# Altium footprint library PcbLib1.PcbLib: 7 footprints
Each footprint in its own frame and in the unit in brackets; x right, y up, seen from the top. Pads: shape width x height; smd on the part's side, far side on the other; paste and mask are expansions set on the pad; w line width, h text height; cw(c..) or ccw(c..) is an arc to the next point about the centre after c.
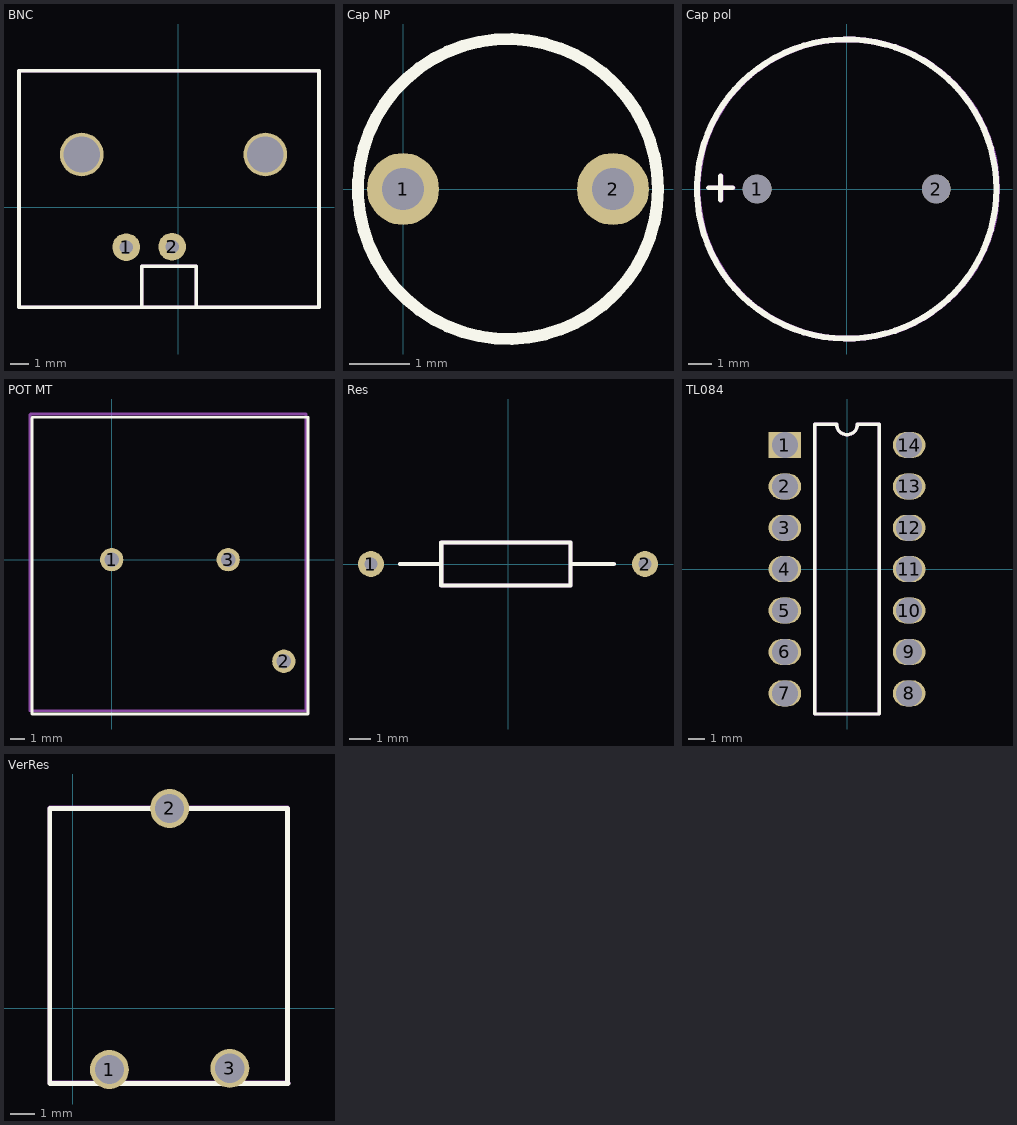
[diagram p0: the footprints below, top view; thin cyan lines are the x and y axes]

## BNC [mm]
pads (4):
  round 1.524 hole 0.762: 1(-2.85,-2.2) 2(-0.325,-2.175)
  round 2.4 hole 2: ""(-5.3,2.9) ""(4.8,2.9)
Top Overlay:
  lines w0.2: -8.75,-5.5 -8.75,7.5 7.75,7.5 7.75,-5.5 -3.25,-5.5 -8.75,-5.5 ; -2,-5.5 -2,-3.25 0,-3.25 1,-3.25 1,-5.5 -2,-5.5
Mechanical 1:
  lines w0.2: -8.75,-5.5 -3.25,-5.5 7.75,-5.5 7.75,7.5 -8.75,7.5 -8.75,-5.5 ; -2,-5.5 1,-5.5 1,-3.25 -0.25,-3.25 -2,-3.25 -2,-5.5
3D body "78m7206_1-1478032-0.stp": height 15.21, standoff -4.89, extent -7.65,-4.2 7.05,31.3

## Cap NP [mm]
pads (2):
  round 1.2 hole 0.7: 1(0,0) 2(3.5,0)
Top Overlay:
  circle w0.2: c1.75,0 r2.5
3D body "CAPACITOR RADIAL 8X12.step": height 12, standoff -2.5, extent -2.2,-4 5.8,4

## Cap pol [mm]
pads (2):
  round 1.2 hole 1.2: 1(-3.75,0) 2(3.75,0)
Top Overlay:
  circle w0.254: c0,0 r6.262
  lines w0.2: -5.783,0.05 -4.767,0.05 ; -5.275,-0.458 -5.275,0.558
Mechanical 1:
  circle w0.254: c0.025,0 r6.262
  lines w0.2: -5.758,0.05 -4.742,0.05 ; -5.25,-0.458 -5.25,0.558
3D body "CAPACITOR pol.step": height 25.75, standoff -2.75, extent -8.25,-8.25 8.259,8.25

## POT MT [mm]
pads (3):
  round 1.6 hole 1: 1(0,0) 2(11.825,-6.975) 3(8,0)
Top Overlay:
  lines w0.2: -5.475,-10.6 -5.475,9.738 -5.438,9.775 13.475,9.775 13.475,-10.6 -5.475,-10.6
Mechanical 1:
  lines w0.2: -5.6,-10.375 13.35,-10.375 13.35,10 -5.563,10 -5.6,9.963 -5.6,-10.375
3D body "User Library-POTENTIOMETER BOURNS 3450S.step": height 23.25, standoff -3.14, extent -26.66,-10.55 13.15,9.65

## Res [mm]
pads (2):
  round 1.2 hole 0.6: 1(-6.35,0) 2(6.35,0)
Top Overlay:
  lines w0.2: -5,0 -3.149,0 ; 2.9,0 4.9,0 ; -3.1,-1 2.9,-1 2.9,1 -3.1,1 -3.1,0.2 -3.1,-1
Mechanical 1:
  lines w0.2: -5,0 -3.149,0 ; 2.9,0 4.9,0 ; -3.1,-1 -3.1,0.2 -3.1,1 2.9,1 2.9,-1 -3.1,-1
3D body "Resistor 0_25w.step": height 2.79, standoff -2.79, extent -6.629,-1.27 6.63,1.27

## TL084 [mm]
pads (14):
  rect 2x1.6 hole 1.6: 1(-3.81,7.62)
  oval 2x1.6 hole 1.6: 2(-3.81,5.08) 3(-3.81,2.54) 4(-3.81,0) 5(-3.81,-2.54) 6(-3.81,-5.08) 7(-3.81,-7.62) 8(3.81,-7.62) 9(3.81,-5.08) 10(3.81,-2.54) 11(3.81,0) 12(3.81,2.54) 13(3.81,5.08) 14(3.81,7.62)
Top Overlay:
  lines w0.2: -1.975,-8.89 -1.975,8.89 -0.635,8.89 ccw(c0,8.89) 0.635,8.89 1.975,8.89 1.975,-8.89 -1.975,-8.89
Mechanical 1:
  lines w0.2: -1.975,-8.89 1.975,-8.89 1.975,8.89 0.635,8.89 cw(c0,8.89) -0.635,8.89 -1.975,8.89 -1.975,-8.89
3D body "DIP 14 IC.step": height 5.1, standoff -3.3, extent -3.96,-10.05 3.91,9.95

## VerRes [mm]
pads (3):
  round 1.6 hole 1.2: 1(1.5,-2.525) 2(3.975,8.2) 3(6.45,-2.475)
Top Overlay:
  lines w0.2: 8.825,-3.1 8.825,8.2 -0.95,8.2 -0.95,-3.1 8.85,-3.1
Mechanical 1:
  lines w0.2: 8.825,-3.075 8.825,8.225 -0.95,8.225 -0.95,-3.075 8.85,-3.075
3D body "User Library-PNZ10ZA.step": height 6.21, standoff -3.49, extent -0.95,-3.075 8.85,8.225